# Altium schematic symbol library PSM712-LF-T7.Schlib: 1 symbol
Pins are listed as number, name and electrical type; pins without a type are passive.

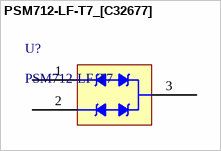
[diagram p0: symbol PSM712-LF-T7_[C32677]]

## PSM712-LF-T7_[C32677]
designator U?, comment PSM712-LF-T7
TVS
footprint SOT-23(SOT-23-3)
pins: 1, 2, 3